# Altium footprint library RF_Connectors.PcbLib: 18 footprints (part 1 of 2)
Each footprint in its own frame and in the unit in brackets; x right, y up, seen from the top. Pads: shape width x height; smd on the part's side, far side on the other; paste and mask are expansions set on the pad; w line width, h text height; cw(c..) or ccw(c..) is an arc to the next point about the centre after c.
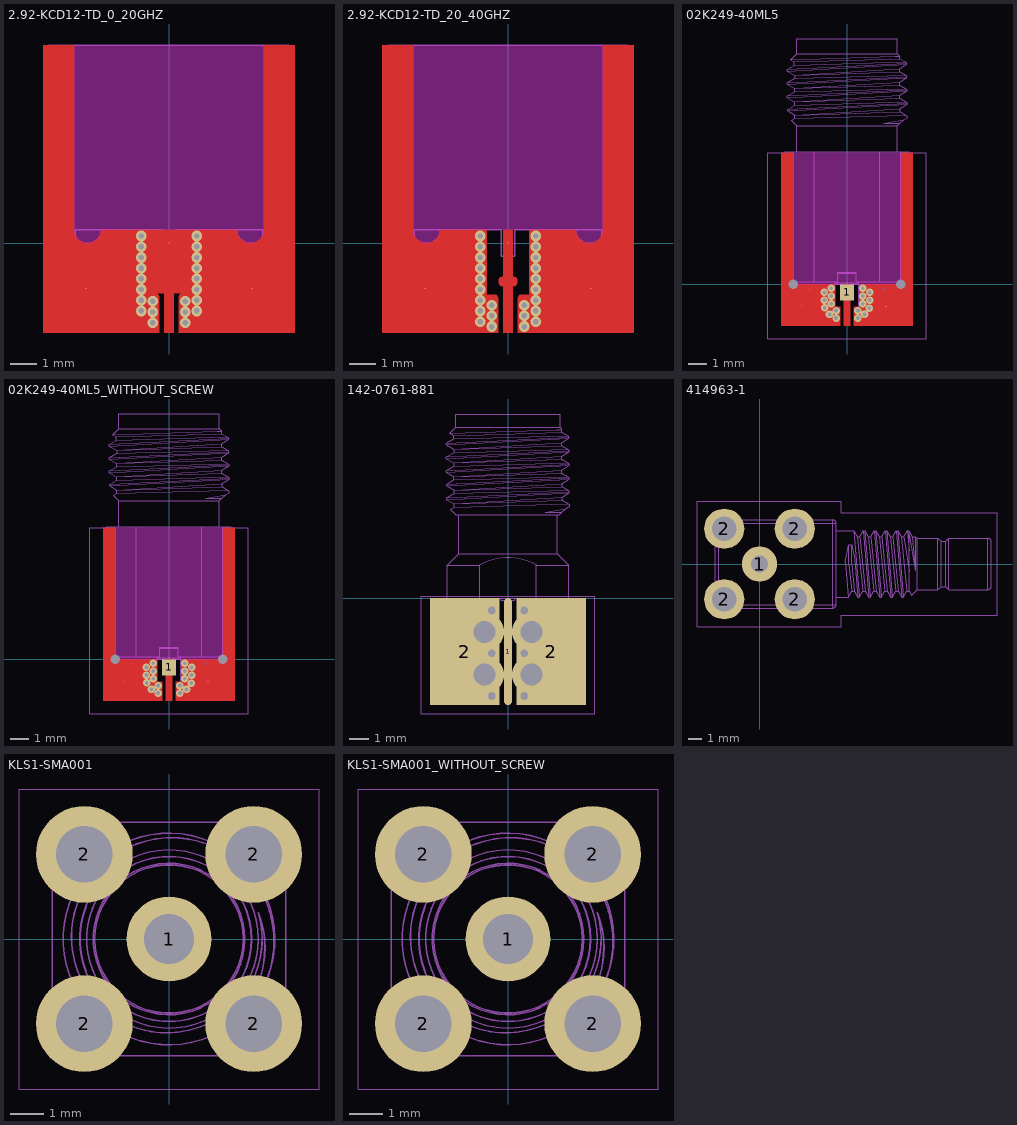
[diagram p0: the footprints below, top view; thin cyan lines are the x and y axes]

## 2.92-KCD12-TD_0_20GHZ [mil]
pads (3):
  round 1 smd mask-196.85: 1(0,0) 2(-122.05,-66.93) 2(122.05,-66.93)
via -40.94,10.44 diameter 15.75 hole 7.87
via -40.94,-5.31 diameter 15.75 hole 7.87
via -40.94,-21.06 diameter 15.75 hole 7.87
via -40.94,-36.81 diameter 15.75 hole 7.87
via -40.94,-52.55 diameter 15.75 hole 7.87
via -40.94,-68.3 diameter 15.75 hole 7.87
via -40.94,-84.05 diameter 15.75 hole 7.87
via -40.94,-99.8 diameter 15.75 hole 7.87
via -24.02,-85.62 diameter 15.75 hole 7.87
via -24.02,-101.37 diameter 15.75 hole 7.87
via -24.02,-117.12 diameter 15.75 hole 7.87
via 24.02,-117.12 diameter 15.75 hole 7.87
via 24.02,-101.37 diameter 15.75 hole 7.87
via 24.02,-85.62 diameter 15.75 hole 7.87
via 40.94,-99.8 diameter 15.75 hole 7.87
via 40.94,-84.05 diameter 15.75 hole 7.87
via 40.94,-68.3 diameter 15.75 hole 7.87
via 40.95,-52.55 diameter 15.75 hole 7.87
via 40.94,-36.81 diameter 15.75 hole 7.87
via 40.94,-21.06 diameter 15.75 hole 7.87
via 40.94,-5.31 diameter 15.75 hole 7.87
via 40.94,10.44 diameter 15.75 hole 7.87
Top Layer:
  region: -6.69,-65.94 -8.74,-65.95 -9.5,-65.95 -10.9,-65.36 -11.98,-64.29 -12.56,-62.89 -12.56,-62.13 -12.56,-55.59 -12.56,-54.83 -11.98,-53.43 -10.9,-52.35 -9.5,-51.77 -8.74,-51.77 -6.69,-51.77 -6.69,-19.89 6.69,-19.89 6.69,-51.77 8.74,-51.77 9.5,-51.77 10.9,-52.35 11.98,-53.43 12.56,-54.83 12.56,-55.59 12.56,-62.13 12.56,-62.89 11.98,-64.29 10.9,-65.36 9.5,-65.94 8.74,-65.94 6.69,-65.94 6.69,-132.09 -6.69,-132.09
  pour cut-out: -31.5,19.88 -31.5,-67.1 -31.5,-68.44 -30.47,-70.9 -28.59,-72.79 -26.12,-73.81 -24.78,-73.81 -6.69,-73.82 -6.69,-65.94 -9.49,-65.94 -10.91,-65.35 -11.97,-64.33 -12.56,-62.87 -12.56,-54.84 -11.97,-53.43 -10.91,-52.36 -9.49,-51.77 -6.69,-51.77 -6.69,19.88
  pour cut-out: 31.5,19.88 31.5,-67.1 31.5,-68.44 30.47,-70.9 28.59,-72.79 26.12,-73.81 24.78,-73.81 6.69,-73.82 6.69,-65.94 9.49,-65.94 10.91,-65.35 11.97,-64.33 12.56,-62.87 12.56,-54.84 11.97,-53.43 10.91,-52.36 9.49,-51.77 6.69,-51.77 6.69,19.88
  region: -6.69,-19.89 6.69,-19.89 6.69,19.89 -6.69,19.89
  region: -185.04,-132.09 -185.04,291.54 -139.76,291.54 -139.76,19.89 -139.67,17.96 -138.92,14.18 -137.44,10.61 -135.3,7.4 -132.57,4.67 -129.36,2.53 -125.8,1.05 -122.01,0.3 -118.15,0.3 -114.37,1.05 -110.8,2.53 -107.6,4.67 -104.87,7.4 -102.72,10.61 -101.25,14.17 -100.49,17.96 -100.4,19.89 -100.39,19.89 -31.5,19.89 -31.5,-67.12 -31.46,-67.78 -31.21,-69.06 -30.71,-70.27 -29.98,-71.37 -29.05,-72.29 -27.96,-73.02 -26.75,-73.52 -25.46,-73.78 -24.8,-73.81 -19.68,-73.81 -19.18,-73.81 -18.19,-74.01 -17.26,-74.4 -16.42,-74.96 -15.71,-75.67 -15.15,-76.51 -14.77,-77.44 -14.57,-78.43 -14.57,-78.93 -14.57,-132.09
  region: 185.04,-132.09 185.04,291.54 139.76,291.54 139.76,19.89 139.67,17.96 138.92,14.18 137.44,10.61 135.3,7.4 132.57,4.67 129.36,2.53 125.8,1.05 122.01,0.3 118.15,0.3 114.37,1.05 110.8,2.53 107.6,4.67 104.87,7.4 102.72,10.61 101.25,14.17 100.49,17.96 100.4,19.89 100.39,19.89 31.5,19.89 31.5,-67.12 31.46,-67.78 31.21,-69.06 30.71,-70.27 29.98,-71.37 29.05,-72.29 27.96,-73.02 26.75,-73.52 25.46,-73.78 24.8,-73.81 19.68,-73.81 19.18,-73.81 18.19,-74.01 17.26,-74.4 16.42,-74.96 15.71,-75.67 15.15,-76.51 14.77,-77.44 14.57,-78.43 14.57,-78.93 14.57,-132.09
Top Solder:
  pour cut-out: 26.38,-27.37 26.38,-35.24 -26.77,-35.24 -26.77,-27.37
  pour cut-out: 209.05,-90.76 105.91,-90.76 105.91,19.87 94.09,19.87 94.09,-102.57 220.87,-102.57 220.87,291.53 209.05,291.53
  pour cut-out: -209.05,-90.76 -105.91,-90.76 -105.91,19.87 -94.09,19.87 -94.09,-102.57 -220.87,-102.57 -220.87,291.53 -209.05,291.53
Bottom Solder:
  pour cut-out: -177.56,291.54 -165.75,291.54 -165.75,-15.75 0,-15.75 0,-27.56 -177.56,-27.56 -177.56,-4.14
  pour cut-out: 177.56,291.54 165.75,291.54 165.75,-15.75 0,-15.75 0,-27.56 177.56,-27.56 177.56,-4.14
Keep-Out Layer:
  board cut-out: -139.76,19.89 -139.76,15.97 -136.77,8.74 -131.23,3.2 -123.99,0.2 -116.16,0.2 -108.93,3.2 -103.39,8.74 -100.39,15.97 -100.39,19.89 100.39,19.89 100.39,15.97 103.39,8.74 108.93,3.2 116.16,0.21 123.99,0.21 131.23,3.2 136.77,8.74 139.76,15.97 139.76,19.89 139.76,291.54 -139.76,291.54
Top Assy (Mech13):
  lines w1.97: -177.17,-58.85 -137.8,-58.85 -137.8,19.89 -9.84,19.89 -9.84,-19.48 9.84,-19.48 9.84,19.89 137.8,19.89 137.8,-58.85 177.17,-58.85 177.17,291.54 -177.17,291.54 -177.17,-58.85
3D body "Соединитель 2.92-KCD12-TD.STEP": height 153.54, standoff -122.05, extent -177.15,-58.85 177.17,527.76

## 2.92-KCD12-TD_20_40GHZ [mil]
pads (3):
  round 1 smd mask-196.85: 1(0,0) 2(-122.05,-66.93) 2(122.05,-66.93)
via 24.02,-122.87 diameter 15.75 hole 7.87
via 24.02,-107.12 diameter 15.75 hole 7.87
via 24.02,-91.37 diameter 15.75 hole 7.87
via 40.94,-52.55 diameter 15.75 hole 7.87
via 40.94,-115.54 diameter 15.75 hole 7.87
via 40.94,-99.8 diameter 15.75 hole 7.87
via 40.94,-84.05 diameter 15.75 hole 7.87
via 40.94,-68.3 diameter 15.75 hole 7.87
via 40.94,-36.8 diameter 15.75 hole 7.87
via 40.94,-21.06 diameter 15.75 hole 7.87
via 40.94,-5.31 diameter 15.75 hole 7.87
via 40.94,10.44 diameter 15.75 hole 7.87
via -24.02,-122.87 diameter 15.75 hole 7.87
via -24.02,-107.12 diameter 15.75 hole 7.87
via -24.02,-91.37 diameter 15.75 hole 7.87
via -40.94,-52.55 diameter 15.75 hole 7.87
via -40.94,-115.54 diameter 15.75 hole 7.87
via -40.94,-99.8 diameter 15.75 hole 7.87
via -40.94,-84.05 diameter 15.75 hole 7.87
via -40.94,-68.3 diameter 15.75 hole 7.87
via -40.94,-36.8 diameter 15.75 hole 7.87
via -40.94,-21.06 diameter 15.75 hole 7.87
via -40.94,-5.31 diameter 15.75 hole 7.87
via -40.94,10.44 diameter 15.75 hole 7.87
Top Layer:
  region: -6.69,-63.42 -8.05,-63.42 -9.23,-63.42 -11.41,-62.51 -13.07,-60.85 -13.98,-58.67 -13.98,-57.49 -13.98,-55.13 -13.98,-53.96 -13.08,-51.79 -11.43,-50.14 -9.26,-49.24 -8.09,-49.24 -6.69,-49.24 -6.69,-19.89 6.69,-19.89 6.69,-49.24 8.09,-49.24 9.26,-49.24 11.43,-50.14 13.08,-51.79 13.98,-53.96 13.98,-55.13 13.98,-57.49 13.98,-58.67 13.07,-60.85 11.41,-62.51 9.23,-63.42 8.05,-63.42 6.69,-63.42 6.69,-132.09 -6.69,-132.09
  region: 185.04,-132.09 185.04,291.54 139.76,291.54 139.76,19.89 139.67,17.96 138.92,14.18 137.44,10.61 135.3,7.4 132.57,4.67 129.36,2.53 125.8,1.05 122.01,0.3 118.15,0.3 114.37,1.05 110.8,2.53 107.6,4.67 104.87,7.4 102.72,10.61 101.25,14.17 100.49,17.96 100.4,19.89 100.39,19.89 31.5,19.89 31.5,-75.63 20.32,-75.63 19.75,-75.63 18.64,-75.85 17.6,-76.28 16.65,-76.91 15.85,-77.72 15.22,-78.66 14.79,-79.7 14.57,-80.82 14.57,-81.38 14.57,-132.09
  region: -185.04,-132.09 -185.04,291.54 -139.76,291.54 -139.76,19.89 -139.67,17.96 -138.92,14.18 -137.44,10.61 -135.3,7.4 -132.57,4.67 -129.36,2.53 -125.8,1.05 -122.01,0.3 -118.15,0.3 -114.37,1.05 -110.8,2.53 -107.6,4.67 -104.87,7.4 -102.72,10.61 -101.25,14.17 -100.49,17.96 -100.4,19.89 -100.39,19.89 -31.5,19.89 -31.5,-75.63 -20.32,-75.63 -19.75,-75.63 -18.64,-75.85 -17.6,-76.28 -16.65,-76.91 -15.85,-77.71 -15.22,-78.66 -14.79,-79.7 -14.57,-80.81 -14.57,-81.38 -14.57,-132.09
  region: -6.69,-19.89 6.69,-19.89 6.69,19.89 -6.69,19.89
Top Solder:
  region: -209.05,-90.76 -105.91,-90.76 -105.91,19.87 -94.09,19.87 -94.09,-102.57 -220.87,-102.57 -220.87,291.53 -209.05,291.53
  region: 209.05,-90.76 105.91,-90.76 105.91,19.87 94.09,19.87 94.09,-102.57 220.87,-102.57 220.87,291.53 209.05,291.53
  region: 26.38,-27.37 26.38,-35.24 -26.77,-35.24 -26.77,-27.37
Bottom Solder:
  region: 177.56,291.54 165.75,291.54 165.75,-4.14 0,-4.14 0,-15.95 177.56,-15.95 177.56,-4.14
  region: -177.56,291.54 -165.75,291.54 -165.75,-4.14 0,-4.14 0,-15.95 -177.56,-15.95 -177.56,-4.14
Keep-Out Layer:
  board cut-out: -139.76,19.89 -139.76,15.97 -136.77,8.74 -131.23,3.2 -123.99,0.2 -116.16,0.2 -108.93,3.2 -103.39,8.74 -100.39,15.97 -100.39,19.89 100.39,19.89 100.39,15.97 103.39,8.74 108.93,3.2 116.16,0.2 123.99,0.21 131.23,3.2 136.77,8.74 139.76,15.97 139.76,19.89 139.76,291.54 -139.76,291.54
Top Assy (Mech13):
  lines w1.97: -177.17,-58.85 -177.17,291.54 177.17,291.54 177.17,-58.85 137.8,-58.85 137.8,19.89 9.84,19.89 9.84,-19.48 -9.84,-19.48 -9.84,19.89 -137.8,19.89 -137.8,-58.85 -177.17,-58.85
3D body "Соединитель 2.92-KCD12-TD.STEP": height 153.54, standoff -122.05, extent -177.15,-58.85 177.17,527.76

## 02K243-40ME3 [mm] "Right Angle Jack PCB RPC-2.92"
height 4.85
pads (4):
  rect 0.34x5 smd paste-3 mask+0.102: 1(0,0)
  rect 6x5 smd paste-5: 2(-4,0) 2(4,0)
  rect 14x5 smd far side paste-5: 2(0,0)
via -4.75,-0.3 diameter 2.7 hole 2.1
via 4.75,-0.3 diameter 2.7 hole 2.1
Top Courtyard:
  lines w0.025: -7.5,-3 7.5,-3 7.5,2.6 -7.5,2.6 -7.5,-3
Top Assy (Mech13):
  circle w0.05: c4.75,-0.3 r1.7
  circle w0.05: c4.75,-0.3 r1.9
  circle w0.05: c-4.75,-0.3 r1.9
  circle w0.05: c-4.75,-0.3 r1.7
  lines w0.05: -6.394,-2.5 -6.394,-1.253 ; -6.394,0.653 -6.394,2.3 ; -2.675,2.3 -2.675,7.44 ; -1,-2.5 -1,2.5 1,2.5 1,-2.5 ; -1,1.9 -0.125,1.9 ; -1,2.3 -7,2.3 -7,-2.5 7,-2.5 7,2.3 1,2.3 ; -0.125,2.5 -0.125,1.5 0.125,1.5 0.125,2.5 ; 0.125,1.9 1,1.9 ; 2.675,2.3 2.675,7.44 ; 2.79,10.999 -2.793,10.824 ; 2.791,11.132 2.568,11.132 -2.987,10.938 ; 2.797,10.293 -2.786,10.118 ; 2.8,10.426 2.8,10.294 3.11,10.116 ; 2.804,9.587 -2.78,9.412 ; 2.807,9.72 2.807,9.588 3.117,9.41 ; 2.81,8.881 -2.773,8.706 ; 2.813,9.014 2.813,8.882 3.124,8.704 ; 2.817,8.175 -2.766,8 ; 2.82,8.308 2.82,8.176 3.131,7.998 ; 6.394,-2.5 6.394,-1.253 ; 6.394,0.653 6.394,2.3 ; -5.512,0.112 ccw(c-4.75,-0.3) -5.488,-0.753 ; -5.512,0.112 cw(c-4.75,-0.3) -5.488,-0.753 ; -5.512,0.112 -5.488,-0.753 ; -5.512,0.112 -4.774,0.566 -4.012,0.153 -3.988,-0.712 -4.726,-1.166 -5.488,-0.753 ; -3.175,10.339 -2.786,10.118 ; -3.175,10.339 3.175,10.692 ; -3.175,10.339 -3.175,10.427 ; -3.175,10.427 3.175,10.75 ; -3.175,10.427 -2.793,10.651 ; -3.168,9.633 -2.78,9.412 ; -3.168,9.633 3.182,9.986 ; -3.168,9.633 -3.168,9.721 ; -3.168,9.721 3.182,10.044 ; -3.168,9.721 -2.786,9.945 ; -3.161,8.927 -2.773,8.706 ; -3.161,8.927 3.189,9.28 ; -3.161,8.927 -3.161,9.015 ; -3.161,9.015 3.189,9.338 ; -3.161,9.015 -2.78,9.239 ; -3.155,8.221 -2.766,8 ; -3.155,8.221 3.195,8.574 ; -3.155,8.221 -3.155,8.309 ; -3.155,8.309 3.195,8.632 ; -3.155,8.309 -2.773,8.533 ; -2.987,10.938 -2.793,10.824 ; -2.987,10.938 -2.675,11.25 ; -2.793,10.651 3.103,10.822 ; -2.793,10.651 -2.793,10.824 ; -2.786,9.945 3.11,10.116 ; -2.786,9.945 -2.786,10.118 ; -2.786,10.118 2.793,10.455 3.175,10.692 ; -2.78,9.239 3.117,9.41 ; -2.78,9.239 -2.78,9.412 ; -2.78,9.412 2.8,9.749 3.182,9.986 ; -2.773,8.533 3.124,8.704 ; -2.773,8.533 -2.773,8.706 ; -2.773,8.706 2.807,9.043 3.189,9.28 ; -2.766,7.827 -2.961,7.726 -2.675,7.44 ; -2.766,7.827 3.131,7.998 ; -2.766,7.827 -2.766,8 ; -2.766,8 2.813,8.337 3.195,8.574 ; -2.675,7.44 2.675,7.44 ; -2.675,11.25 2.675,11.25 ; -2.675,11.25 -2.675,12 2.675,12 2.675,11.25 ; 2.675,7.44 2.793,7.558 ; 2.675,11.25 2.793,11.132 2.793,11 3.103,10.822 ; 2.793,7.558 3.011,7.749 ; 2.793,7.558 1.947,7.558 3.011,7.749 ; 3.011,7.749 3.202,7.868 3.202,7.926 3.131,7.998 ; 3.103,10.822 3.175,10.75 ; 3.11,10.116 3.182,10.044 ; 3.117,9.41 3.189,9.338 ; 3.124,8.704 3.195,8.632 ; 3.175,10.692 3.175,10.75 ; 3.182,9.986 3.182,10.044 ; 3.189,9.28 3.189,9.338 ; 3.195,8.574 3.195,8.632 ; 3.954,0.041 ccw(c4.75,-0.3) 4.057,-0.819 ; 3.954,0.041 cw(c4.75,-0.3) 4.057,-0.819 ; 3.954,0.041 4.057,-0.819 ; 3.954,0.041 4.647,0.56 5.443,0.219 5.546,-0.641 4.853,-1.16 4.057,-0.819 ; -4.393,0.36 cw(c-4.75,-0.3) -4,-0.279 cw(c-4.75,-0.3) -4.393,0.36 ; 5.045,0.39 cw(c4.75,-0.3) 5.495,-0.211 cw(c4.75,-0.3) 5.045,0.39
  text ".Designator" at -6.763,3.821 h3
Bottom Assy (Mech14):
  drawing of 510 lines, arcs and shapes, not listed
3D body "02K243-40ME3.x_t": height 4.95, standoff -5.05, extent -7,-2.5 7,12

## 02K243-40ME3_WITHOUT_SCREW [mm] "Right Angle Jack PCB RPC-2.92, 3D model without screw thread"
height 4.85
pads (4):
  rect 0.34x5 smd paste-3 mask+0.102: 1(0,0)
  rect 6x5 smd paste-5: 2(-4,0) 2(4,0)
  rect 14x5 smd far side paste-5: 2(0,0)
via 4.75,-0.3 diameter 2.7 hole 2.1
via -4.75,-0.3 diameter 2.7 hole 2.1
Top Courtyard:
  lines w0.025: -7.5,-3 -7.5,2.6 7.5,2.6 7.5,-3 -7.5,-3
Top Assy (Mech13):
  circle w0.05: c-4.75,-0.3 r1.7
  circle w0.05: c-4.75,-0.3 r1.9
  circle w0.05: c4.75,-0.3 r1.9
  circle w0.05: c4.75,-0.3 r1.7
  lines w0.05: -6.394,-2.5 -6.394,-1.253 ; -6.394,0.653 -6.394,2.3 ; -2.675,2.3 -2.675,7.44 ; -1,-2.5 -1,2.5 1,2.5 1,-2.5 ; -1,1.9 -0.125,1.9 ; -1,2.3 -7,2.3 -7,-2.5 7,-2.5 7,2.3 1,2.3 ; -0.125,2.5 -0.125,1.5 0.125,1.5 0.125,2.5 ; 0.125,1.9 1,1.9 ; 2.675,2.3 2.675,7.44 ; 2.79,10.999 -2.793,10.824 ; 2.791,11.132 2.568,11.132 -2.987,10.938 ; 2.797,10.293 -2.786,10.118 ; 2.8,10.426 2.8,10.294 3.11,10.116 ; 2.804,9.587 -2.78,9.412 ; 2.807,9.72 2.807,9.588 3.117,9.41 ; 2.81,8.881 -2.773,8.706 ; 2.813,9.014 2.813,8.882 3.124,8.704 ; 2.817,8.175 -2.766,8 ; 2.82,8.308 2.82,8.176 3.131,7.998 ; 6.394,-2.5 6.394,-1.253 ; 6.394,0.653 6.394,2.3 ; -5.512,0.112 cw(c-4.75,-0.3) -5.488,-0.753 ; -5.512,0.112 ccw(c-4.75,-0.3) -5.488,-0.753 ; -5.512,0.112 -4.774,0.566 -4.012,0.153 -3.988,-0.712 -4.726,-1.166 -5.488,-0.753 ; -5.512,0.112 -5.488,-0.753 ; -3.175,10.339 -3.175,10.427 ; -3.175,10.339 3.175,10.692 ; -3.175,10.339 -2.786,10.118 ; -3.175,10.427 -2.793,10.651 ; -3.175,10.427 3.175,10.75 ; -3.168,9.633 -3.168,9.721 ; -3.168,9.633 3.182,9.986 ; -3.168,9.633 -2.78,9.412 ; -3.168,9.721 -2.786,9.945 ; -3.168,9.721 3.182,10.044 ; -3.161,8.927 -3.161,9.015 ; -3.161,8.927 3.189,9.28 ; -3.161,8.927 -2.773,8.706 ; -3.161,9.015 -2.78,9.239 ; -3.161,9.015 3.189,9.338 ; -3.155,8.221 -3.155,8.309 ; -3.155,8.221 3.195,8.574 ; -3.155,8.221 -2.766,8 ; -3.155,8.309 -2.773,8.533 ; -3.155,8.309 3.195,8.632 ; -2.987,10.938 -2.675,11.25 ; -2.987,10.938 -2.793,10.824 ; -2.793,10.651 -2.793,10.824 ; -2.793,10.651 3.103,10.822 ; -2.786,9.945 -2.786,10.118 ; -2.786,9.945 3.11,10.116 ; -2.786,10.118 2.793,10.455 3.175,10.692 ; -2.78,9.239 -2.78,9.412 ; -2.78,9.239 3.117,9.41 ; -2.78,9.412 2.8,9.749 3.182,9.986 ; -2.773,8.533 -2.773,8.706 ; -2.773,8.533 3.124,8.704 ; -2.773,8.706 2.807,9.043 3.189,9.28 ; -2.766,7.827 -2.766,8 ; -2.766,7.827 3.131,7.998 ; -2.766,7.827 -2.961,7.726 -2.675,7.44 ; -2.766,8 2.813,8.337 3.195,8.574 ; -2.675,7.44 2.675,7.44 ; -2.675,11.25 -2.675,12 2.675,12 2.675,11.25 ; -2.675,11.25 2.675,11.25 ; 2.675,7.44 2.793,7.558 ; 2.675,11.25 2.793,11.132 2.793,11 3.103,10.822 ; 2.793,7.558 1.947,7.558 3.011,7.749 ; 2.793,7.558 3.011,7.749 ; 3.011,7.749 3.202,7.868 3.202,7.926 3.131,7.998 ; 3.103,10.822 3.175,10.75 ; 3.11,10.116 3.182,10.044 ; 3.117,9.41 3.189,9.338 ; 3.124,8.704 3.195,8.632 ; 3.175,10.692 3.175,10.75 ; 3.182,9.986 3.182,10.044 ; 3.189,9.28 3.189,9.338 ; 3.195,8.574 3.195,8.632 ; 3.954,0.041 cw(c4.75,-0.3) 4.057,-0.819 ; 3.954,0.041 ccw(c4.75,-0.3) 4.057,-0.819 ; 3.954,0.041 4.647,0.56 5.443,0.219 5.546,-0.641 4.853,-1.16 4.057,-0.819 ; 3.954,0.041 4.057,-0.819 ; -4.393,0.36 ccw(c-4.75,-0.3) -4,-0.279 ccw(c-4.75,-0.3) -4.393,0.36 ; 5.045,0.39 ccw(c4.75,-0.3) 5.495,-0.211 ccw(c4.75,-0.3) 5.045,0.39
  text ".Designator" at -6.763,3.821 h3
Bottom Assy (Mech14):
  drawing of 510 lines, arcs and shapes, not listed
3D body "02K243-40ME3_without_screw_thread.x_t": height 4.95, standoff -5.05, extent -7,-2.5 7,12

## 02K249-40ML5 [mm] "Right Angle Jack PCB RPC-2.92"
height 3.05
pads (7):
  rect 0.73x0.85 smd paste-5 mask-5: 1(0,-0.425)
  round 0 hole 0.5 paste-2539.97 mask+0.102: 2(-2.85,0) 2(2.85,0)
  round 0.025 smd paste-5 mask-5: 2(-2.4,-1.15) 2(2.07,-1.175)
  round 0.025 smd far side paste-5 mask-5: 2(-2,-0.25) 2(2,-0.25)
via -0.84,-0.21 diameter 0.4 hole 0.2
via -0.58,-1.79 diameter 0.4 hole 0.2
via -0.84,-0.62 diameter 0.4 hole 0.2
via -0.58,-1.39 diameter 0.4 hole 0.2
via -0.84,-1.03 diameter 0.4 hole 0.2
via 0.84,-0.21 diameter 0.4 hole 0.2
via 0.58,-1.79 diameter 0.4 hole 0.2
via 0.84,-0.62 diameter 0.4 hole 0.2
via 0.58,-1.39 diameter 0.4 hole 0.2
via 0.84,-1.03 diameter 0.4 hole 0.2
via -1.2,-0.425 diameter 0.4 hole 0.2
via -1.2,-0.835 diameter 0.4 hole 0.2
via -0.93,-1.595 diameter 0.4 hole 0.2
via 1.2,-0.425 diameter 0.4 hole 0.2
via 1.2,-0.835 diameter 0.4 hole 0.2
via 0.93,-1.595 diameter 0.4 hole 0.2
via 1.18,-1.26 diameter 0.4 hole 0.2
via -1.18,-1.25 diameter 0.4 hole 0.2
Top Layer:
  region: 0,0 -0.17,0 -0.17,-1.34 0,-1.34
  region: 0,0 0.17,0 0.17,-1.34 0,-1.34
  region: 0,-1.34 -0.17,-1.34 -0.17,-2.2 0,-2.2
  region: 0,-1.34 0.17,-1.34 0.17,-2.2 0,-2.2
  region: 0.37,-2.2 3.5,-2.2 3.5,-1.175 3.5,7 2.85,7 2.85,0 0.64,0 0.64,-1.175 0.37,-1.175
  region: -3.5,-2.2 -0.37,-2.2 -0.37,-1.175 -0.64,-1.175 -0.64,0 -2.85,0 -2.85,7 -3.5,7 -3.5,-1.175
Bottom Layer:
  region: -3.5,-0.5 -0.64,-0.5 -0.64,0 -2.85,0 -2.85,7 -3.5,7
  region: 0.64,-0.5 3.5,-0.5 3.5,7 2.85,7 2.85,0 0.64,0
Top Solder:
  region: -3.8,7 -3.8,-2.5 3.8,-2.5 3.8,7 3.5,7 3.5,-2.2 -3.5,-2.2 -3.5,7
  region: -0.4,-1 0.4,-1 0.5,-1 0.5,-1.2 -0.5,-1.2 -0.5,-1
Keep-Out Layer:
  board cut-out: -2.85,7 -2.85,0 2.85,0 2.85,7
Top Courtyard:
  lines w0.025: -4.2,-2.9 -4.2,7 -2.85,7 -2.85,0 2.85,0 2.85,7 4.2,7 4.2,-2.9 -4.2,-2.9
Top Assy (Mech13):
  lines w0.05: -3.281,-1.862 -3.281,0.138 -0.5,0.138 -0.5,0.637 0.5,0.637 0.5,0.138 3.281,0.138 3.281,-1.862 ; -2.675,7.038 -2.675,8.438 ; -2.675,12.288 -2.675,13.037 2.675,13.037 2.675,12.288 ; -1.746,0.138 -1.746,7.038 ; -0.635,0.088 0.635,0.088 ; -0.635,0.138 -0.635,-1.862 -3.3,-1.862 -3.3,7.038 3.3,7.038 3.3,-1.862 0.635,-1.862 0.635,0.138 ; -0.5,0.588 0.5,0.588 ; -0.25,0.088 -0.25,-0.712 0.25,-0.712 0.25,0.088 ; 1.746,0.138 1.746,7.038 ; 2.675,7.038 2.675,8.438 ; 2.79,11.996 -2.793,11.821 ; 2.791,12.129 2.568,12.129 -2.987,11.935 ; 2.797,11.29 -2.786,11.116 ; 2.8,11.423 2.8,11.292 3.11,11.113 ; 2.804,10.584 -2.78,10.41 ; 2.807,10.717 2.807,10.586 3.117,10.407 ; 2.81,9.878 -2.773,9.704 ; 2.813,10.011 2.813,9.88 3.124,9.701 ; 2.817,9.172 -2.766,8.998 ; 2.82,9.306 2.82,9.174 3.131,8.995 ; -3.175,11.336 -2.786,11.116 ; -3.175,11.336 3.175,11.689 ; -3.175,11.336 -3.175,11.425 ; -3.175,11.425 3.175,11.748 ; -3.175,11.425 -2.793,11.648 ; -3.168,10.63 -2.78,10.41 ; -3.168,10.63 3.182,10.983 ; -3.168,10.63 -3.168,10.719 ; -3.168,10.719 3.182,11.042 ; -3.168,10.719 -2.786,10.942 ; -3.161,9.924 -2.773,9.704 ; -3.161,9.924 3.189,10.277 ; -3.161,9.924 -3.161,10.013 ; -3.161,10.013 3.189,10.336 ; -3.161,10.013 -2.78,10.236 ; -3.155,9.218 -2.766,8.998 ; -3.155,9.218 3.195,9.571 ; -3.155,9.218 -3.155,9.307 ; -3.155,9.307 3.195,9.63 ; -3.155,9.307 -2.773,9.53 ; -2.987,11.935 -2.793,11.821 ; -2.987,11.935 -2.675,12.248 2.675,12.248 2.793,12.129 2.793,11.998 3.103,11.819 ; -2.793,11.648 3.103,11.819 ; -2.793,11.648 -2.793,11.821 ; -2.786,10.942 3.11,11.113 ; -2.786,10.942 -2.786,11.116 ; -2.786,11.116 2.793,11.452 3.175,11.689 ; -2.78,10.236 3.117,10.407 ; -2.78,10.236 -2.78,10.41 ; -2.78,10.41 2.8,10.746 3.182,10.983 ; -2.773,9.53 3.124,9.701 ; -2.773,9.53 -2.773,9.704 ; -2.773,9.704 2.807,10.04 3.189,10.277 ; -2.766,8.825 -2.961,8.724 -2.675,8.438 ; -2.766,8.825 3.131,8.995 ; -2.766,8.825 -2.766,8.998 ; -2.766,8.998 2.813,9.334 3.195,9.571 ; -2.675,8.438 2.675,8.438 ; 2.675,8.438 2.793,8.556 ; 2.793,8.556 3.011,8.747 ; 2.793,8.556 1.947,8.556 3.011,8.747 ; 3.011,8.747 3.202,8.865 3.202,8.924 3.131,8.995 ; 3.103,11.819 3.175,11.748 ; 3.11,11.113 3.182,11.042 ; 3.117,10.407 3.189,10.336 ; 3.124,9.701 3.195,9.63 ; 3.175,11.689 3.175,11.748 ; 3.182,10.983 3.182,11.042 ; 3.189,10.277 3.189,10.336 ; 3.195,9.571 3.195,9.63
  text ".Designator" at 0.679,-3.263 h3
3D body "02K249-40ML5.x_t": height 3.42, standoff -2.92, extent -3.3,-1.865 3.3,13.035

## 02K249-40ML5_WITHOUT_SCREW [mm] "Right Angle Jack PCB RPC-2.92, 3D model without screw thread"
height 3.05
pads (7):
  rect 0.73x0.85 smd paste-5 mask-5: 1(0,-0.425)
  round 0 hole 0.5 paste-2539.97 mask+0.102: 2(-2.85,0) 2(2.85,0)
  round 0.025 smd paste-5 mask-5: 2(-2.4,-1.15) 2(2.07,-1.175)
  round 0.025 smd far side paste-5 mask-5: 2(-2,-0.25) 2(2,-0.25)
via -0.84,-0.21 diameter 0.4 hole 0.2
via -0.58,-1.79 diameter 0.4 hole 0.2
via -0.84,-0.62 diameter 0.4 hole 0.2
via -0.58,-1.39 diameter 0.4 hole 0.2
via -0.84,-1.03 diameter 0.4 hole 0.2
via 0.84,-0.21 diameter 0.4 hole 0.2
via 0.58,-1.79 diameter 0.4 hole 0.2
via 0.84,-0.62 diameter 0.4 hole 0.2
via 0.58,-1.39 diameter 0.4 hole 0.2
via 0.84,-1.03 diameter 0.4 hole 0.2
via -1.2,-0.425 diameter 0.4 hole 0.2
via -1.2,-0.835 diameter 0.4 hole 0.2
via -0.93,-1.595 diameter 0.4 hole 0.2
via 1.2,-0.425 diameter 0.4 hole 0.2
via 1.2,-0.835 diameter 0.4 hole 0.2
via 0.93,-1.595 diameter 0.4 hole 0.2
via 1.18,-1.26 diameter 0.4 hole 0.2
via -1.18,-1.25 diameter 0.4 hole 0.2
Top Layer:
  region: 0,0 -0.17,0 -0.17,-1.34 0,-1.34
  region: 0,0 0.17,0 0.17,-1.34 0,-1.34
  region: 0,-1.34 -0.17,-1.34 -0.17,-2.2 0,-2.2
  region: 0,-1.34 0.17,-1.34 0.17,-2.2 0,-2.2
  region: 0.37,-2.2 3.5,-2.2 3.5,-1.175 3.5,7 2.85,7 2.85,0 0.64,0 0.64,-1.175 0.37,-1.175
  region: -3.5,-2.2 -0.37,-2.2 -0.37,-1.175 -0.64,-1.175 -0.64,0 -2.85,0 -2.85,7 -3.5,7 -3.5,-1.175
Bottom Layer:
  region: -3.5,-0.5 -0.64,-0.5 -0.64,0 -2.85,0 -2.85,7 -3.5,7
  region: 0.64,-0.5 3.5,-0.5 3.5,7 2.85,7 2.85,0 0.64,0
Top Solder:
  region: -3.8,7 -3.8,-2.5 3.8,-2.5 3.8,7 3.5,7 3.5,-2.2 -3.5,-2.2 -3.5,7
  region: -0.4,-1 0.4,-1 0.5,-1 0.5,-1.2 -0.5,-1.2 -0.5,-1
Keep-Out Layer:
  board cut-out: -2.85,7 -2.85,0 2.85,0 2.85,7
Top Courtyard:
  lines w0.025: -4.2,-2.9 -4.2,7 -2.85,7 -2.85,0 2.85,0 2.85,7 4.2,7 4.2,-2.9 -4.2,-2.9
Top Assy (Mech13):
  lines w0.05: -3.281,-1.862 -3.281,0.138 -0.5,0.138 -0.5,0.637 0.5,0.637 0.5,0.138 3.281,0.138 3.281,-1.862 ; -2.675,7.038 -2.675,8.438 ; -2.675,12.288 -2.675,13.037 2.675,13.037 2.675,12.288 ; -1.746,0.138 -1.746,7.038 ; -0.635,0.088 0.635,0.088 ; -0.635,0.138 -0.635,-1.862 -3.3,-1.862 -3.3,7.038 3.3,7.038 3.3,-1.862 0.635,-1.862 0.635,0.138 ; -0.5,0.588 0.5,0.588 ; -0.25,0.088 -0.25,-0.712 0.25,-0.712 0.25,0.088 ; 1.746,0.138 1.746,7.038 ; 2.675,7.038 2.675,8.438 ; 2.79,11.996 -2.793,11.821 ; 2.791,12.129 2.568,12.129 -2.987,11.935 ; 2.797,11.29 -2.786,11.116 ; 2.8,11.423 2.8,11.292 3.11,11.113 ; 2.804,10.584 -2.78,10.41 ; 2.807,10.717 2.807,10.586 3.117,10.407 ; 2.81,9.878 -2.773,9.704 ; 2.813,10.011 2.813,9.88 3.124,9.701 ; 2.817,9.172 -2.766,8.998 ; 2.82,9.306 2.82,9.174 3.131,8.995 ; -3.175,11.336 -2.786,11.116 ; -3.175,11.336 3.175,11.689 ; -3.175,11.336 -3.175,11.425 ; -3.175,11.425 3.175,11.748 ; -3.175,11.425 -2.793,11.648 ; -3.168,10.63 -2.78,10.41 ; -3.168,10.63 3.182,10.983 ; -3.168,10.63 -3.168,10.719 ; -3.168,10.719 3.182,11.042 ; -3.168,10.719 -2.786,10.942 ; -3.161,9.924 -2.773,9.704 ; -3.161,9.924 3.189,10.277 ; -3.161,9.924 -3.161,10.013 ; -3.161,10.013 3.189,10.336 ; -3.161,10.013 -2.78,10.236 ; -3.155,9.218 -2.766,8.998 ; -3.155,9.218 3.195,9.571 ; -3.155,9.218 -3.155,9.307 ; -3.155,9.307 3.195,9.63 ; -3.155,9.307 -2.773,9.53 ; -2.987,11.935 -2.793,11.821 ; -2.987,11.935 -2.675,12.248 2.675,12.248 2.793,12.129 2.793,11.998 3.103,11.819 ; -2.793,11.648 3.103,11.819 ; -2.793,11.648 -2.793,11.821 ; -2.786,10.942 3.11,11.113 ; -2.786,10.942 -2.786,11.116 ; -2.786,11.116 2.793,11.452 3.175,11.689 ; -2.78,10.236 3.117,10.407 ; -2.78,10.236 -2.78,10.41 ; -2.78,10.41 2.8,10.746 3.182,10.983 ; -2.773,9.53 3.124,9.701 ; -2.773,9.53 -2.773,9.704 ; -2.773,9.704 2.807,10.04 3.189,10.277 ; -2.766,8.825 -2.961,8.724 -2.675,8.438 ; -2.766,8.825 3.131,8.995 ; -2.766,8.825 -2.766,8.998 ; -2.766,8.998 2.813,9.334 3.195,9.571 ; -2.675,8.438 2.675,8.438 ; 2.675,8.438 2.793,8.556 ; 2.793,8.556 3.011,8.747 ; 2.793,8.556 1.947,8.556 3.011,8.747 ; 3.011,8.747 3.202,8.865 3.202,8.924 3.131,8.995 ; 3.103,11.819 3.175,11.748 ; 3.11,11.113 3.182,11.042 ; 3.117,10.407 3.189,10.336 ; 3.124,9.701 3.195,9.63 ; 3.175,11.689 3.175,11.748 ; 3.182,10.983 3.182,11.042 ; 3.189,10.277 3.189,10.336 ; 3.195,9.571 3.195,9.63
  text ".Designator" at 0.679,-3.263 h3
3D body "02K249-40ML5_without_screw_thread.x_t": height 3.42, standoff -2.93, extent -3.3,-1.865 3.3,13.035

## 32K243-40ML5 [mm] "Right Angle Jack PCB SMA"
height 4.85
pads (4):
  rect 0.34x5 smd paste-3 mask+0.102: 1(0,0)
  rect 6x5 smd paste-5: 2(-4,0) 2(4,0)
  rect 14x5 smd far side paste-5: 2(0,0)
via -4.75,-0.3 diameter 2.7 hole 2.1
via 4.75,-0.3 diameter 2.7 hole 2.1
Top Courtyard:
  lines w0.025: -7.5,-3 -7.5,2.6 7.5,2.6 7.5,-3 -7.5,-3
Top Assy (Mech13):
  circle w0.05: c4.75,-0.3 r1.7
  circle w0.05: c4.75,-0.3 r1.9
  circle w0.05: c-4.75,-0.3 r1.9
  circle w0.05: c-4.75,-0.3 r1.7
  lines w0.05: -6.394,-2.5 -6.394,-1.253 ; -6.394,0.653 -6.394,2.3 ; -2.675,2.3 -2.675,7.44 ; -1,-2.5 -1,2.5 1,2.5 1,-2.5 ; -1,1.9 -0.125,1.9 ; -1,2.3 -7,2.3 -7,-2.5 7,-2.5 7,2.3 1,2.3 ; -0.125,2.5 -0.125,1.5 0.125,1.5 0.125,2.5 ; 0.125,1.9 1,1.9 ; 2.675,2.3 2.675,7.44 ; 2.79,10.999 -2.793,10.824 ; 2.791,11.132 2.568,11.132 -2.987,10.938 ; 2.797,10.293 -2.786,10.118 ; 2.8,10.426 2.8,10.294 3.11,10.116 ; 2.804,9.587 -2.78,9.412 ; 2.807,9.72 2.807,9.588 3.117,9.41 ; 2.81,8.881 -2.773,8.706 ; 2.813,9.014 2.813,8.882 3.124,8.704 ; 2.817,8.175 -2.766,8 ; 2.82,8.308 2.82,8.176 3.131,7.998 ; 6.394,-2.5 6.394,-1.253 ; 6.394,0.653 6.394,2.3 ; -5.512,0.112 ccw(c-4.75,-0.3) -5.488,-0.753 ; -5.512,0.112 cw(c-4.75,-0.3) -5.488,-0.753 ; -5.512,0.112 -5.488,-0.753 ; -5.512,0.112 -4.774,0.566 -4.012,0.153 -3.988,-0.712 -4.726,-1.166 -5.488,-0.753 ; -3.175,10.339 -2.786,10.118 ; -3.175,10.339 3.175,10.692 ; -3.175,10.339 -3.175,10.427 ; -3.175,10.427 3.175,10.75 ; -3.175,10.427 -2.793,10.651 ; -3.168,9.633 -2.78,9.412 ; -3.168,9.633 3.182,9.986 ; -3.168,9.633 -3.168,9.721 ; -3.168,9.721 3.182,10.044 ; -3.168,9.721 -2.786,9.945 ; -3.161,8.927 -2.773,8.706 ; -3.161,8.927 3.189,9.28 ; -3.161,8.927 -3.161,9.015 ; -3.161,9.015 3.189,9.338 ; -3.161,9.015 -2.78,9.239 ; -3.155,8.221 -2.766,8 ; -3.155,8.221 3.195,8.574 ; -3.155,8.221 -3.155,8.309 ; -3.155,8.309 3.195,8.632 ; -3.155,8.309 -2.773,8.533 ; -2.987,10.938 -2.793,10.824 ; -2.987,10.938 -2.675,11.25 ; -2.793,10.651 3.103,10.822 ; -2.793,10.651 -2.793,10.824 ; -2.786,9.945 3.11,10.116 ; -2.786,9.945 -2.786,10.118 ; -2.786,10.118 2.793,10.455 3.175,10.692 ; -2.78,9.239 3.117,9.41 ; -2.78,9.239 -2.78,9.412 ; -2.78,9.412 2.8,9.749 3.182,9.986 ; -2.773,8.533 3.124,8.704 ; -2.773,8.533 -2.773,8.706 ; -2.773,8.706 2.807,9.043 3.189,9.28 ; -2.766,7.827 -2.961,7.726 -2.675,7.44 ; -2.766,7.827 3.131,7.998 ; -2.766,7.827 -2.766,8 ; -2.766,8 2.813,8.337 3.195,8.574 ; -2.675,7.44 2.675,7.44 ; -2.675,11.25 2.675,11.25 ; -2.675,11.25 -2.675,12 2.675,12 2.675,11.25 ; 2.675,7.44 2.793,7.558 ; 2.675,11.25 2.793,11.132 2.793,11 3.103,10.822 ; 2.793,7.558 3.011,7.749 ; 2.793,7.558 1.947,7.558 3.011,7.749 ; 3.011,7.749 3.202,7.868 3.202,7.926 3.131,7.998 ; 3.103,10.822 3.175,10.75 ; 3.11,10.116 3.182,10.044 ; 3.117,9.41 3.189,9.338 ; 3.124,8.704 3.195,8.632 ; 3.175,10.692 3.175,10.75 ; 3.182,9.986 3.182,10.044 ; 3.189,9.28 3.189,9.338 ; 3.195,8.574 3.195,8.632 ; 3.954,0.041 ccw(c4.75,-0.3) 4.057,-0.819 ; 3.954,0.041 cw(c4.75,-0.3) 4.057,-0.819 ; 3.954,0.041 4.057,-0.819 ; 3.954,0.041 4.647,0.56 5.443,0.219 5.546,-0.641 4.853,-1.16 4.057,-0.819 ; -4.393,0.36 cw(c-4.75,-0.3) -4,-0.279 cw(c-4.75,-0.3) -4.393,0.36 ; 5.045,0.39 cw(c4.75,-0.3) 5.495,-0.211 cw(c4.75,-0.3) 5.045,0.39
  text ".Designator" at -6.763,3.821 h3
Bottom Assy (Mech14):
  drawing of 510 lines, arcs and shapes, not listed
3D body "32K243-40ML5.x_t": height 4.95, standoff -5.05, extent -7,-2.5 7,12

## 32K243-40ML5_WITHOUT_SCREW [mm] "Right Angle Jack PCB SMA, 3D model without screw thread"
height 4.85
pads (4):
  rect 0.34x5 smd paste-3 mask+0.102: 1(0,0)
  rect 6x5 smd paste-5: 2(-4,0) 2(4,0)
  rect 14x5 smd far side paste-5: 2(0,0)
via -4.75,-0.3 diameter 2.7 hole 2.1
via 4.75,-0.3 diameter 2.7 hole 2.1
Top Courtyard:
  lines w0.025: -7.5,-3 -7.5,2.6 7.5,2.6 7.5,-3 -7.5,-3
Top Assy (Mech13):
  circle w0.05: c4.75,-0.3 r1.7
  circle w0.05: c4.75,-0.3 r1.9
  circle w0.05: c-4.75,-0.3 r1.9
  circle w0.05: c-4.75,-0.3 r1.7
  lines w0.05: -6.394,-2.5 -6.394,-1.253 ; -6.394,0.653 -6.394,2.3 ; -2.675,2.3 -2.675,7.44 ; -1,-2.5 -1,2.5 1,2.5 1,-2.5 ; -1,1.9 -0.125,1.9 ; -1,2.3 -7,2.3 -7,-2.5 7,-2.5 7,2.3 1,2.3 ; -0.125,2.5 -0.125,1.5 0.125,1.5 0.125,2.5 ; 0.125,1.9 1,1.9 ; 2.675,2.3 2.675,7.44 ; 2.79,10.999 -2.793,10.824 ; 2.791,11.132 2.568,11.132 -2.987,10.938 ; 2.797,10.293 -2.786,10.118 ; 2.8,10.426 2.8,10.294 3.11,10.116 ; 2.804,9.587 -2.78,9.412 ; 2.807,9.72 2.807,9.588 3.117,9.41 ; 2.81,8.881 -2.773,8.706 ; 2.813,9.014 2.813,8.882 3.124,8.704 ; 2.817,8.175 -2.766,8 ; 2.82,8.308 2.82,8.176 3.131,7.998 ; 6.394,-2.5 6.394,-1.253 ; 6.394,0.653 6.394,2.3 ; -5.512,0.112 ccw(c-4.75,-0.3) -5.488,-0.753 ; -5.512,0.112 cw(c-4.75,-0.3) -5.488,-0.753 ; -5.512,0.112 -5.488,-0.753 ; -5.512,0.112 -4.774,0.566 -4.012,0.153 -3.988,-0.712 -4.726,-1.166 -5.488,-0.753 ; -3.175,10.339 -2.786,10.118 ; -3.175,10.339 3.175,10.692 ; -3.175,10.339 -3.175,10.427 ; -3.175,10.427 3.175,10.75 ; -3.175,10.427 -2.793,10.651 ; -3.168,9.633 -2.78,9.412 ; -3.168,9.633 3.182,9.986 ; -3.168,9.633 -3.168,9.721 ; -3.168,9.721 3.182,10.044 ; -3.168,9.721 -2.786,9.945 ; -3.161,8.927 -2.773,8.706 ; -3.161,8.927 3.189,9.28 ; -3.161,8.927 -3.161,9.015 ; -3.161,9.015 3.189,9.338 ; -3.161,9.015 -2.78,9.239 ; -3.155,8.221 -2.766,8 ; -3.155,8.221 3.195,8.574 ; -3.155,8.221 -3.155,8.309 ; -3.155,8.309 3.195,8.632 ; -3.155,8.309 -2.773,8.533 ; -2.987,10.938 -2.793,10.824 ; -2.987,10.938 -2.675,11.25 ; -2.793,10.651 3.103,10.822 ; -2.793,10.651 -2.793,10.824 ; -2.786,9.945 3.11,10.116 ; -2.786,9.945 -2.786,10.118 ; -2.786,10.118 2.793,10.455 3.175,10.692 ; -2.78,9.239 3.117,9.41 ; -2.78,9.239 -2.78,9.412 ; -2.78,9.412 2.8,9.749 3.182,9.986 ; -2.773,8.533 3.124,8.704 ; -2.773,8.533 -2.773,8.706 ; -2.773,8.706 2.807,9.043 3.189,9.28 ; -2.766,7.827 -2.961,7.726 -2.675,7.44 ; -2.766,7.827 3.131,7.998 ; -2.766,7.827 -2.766,8 ; -2.766,8 2.813,8.337 3.195,8.574 ; -2.675,7.44 2.675,7.44 ; -2.675,11.25 2.675,11.25 ; -2.675,11.25 -2.675,12 2.675,12 2.675,11.25 ; 2.675,7.44 2.793,7.558 ; 2.675,11.25 2.793,11.132 2.793,11 3.103,10.822 ; 2.793,7.558 3.011,7.749 ; 2.793,7.558 1.947,7.558 3.011,7.749 ; 3.011,7.749 3.202,7.868 3.202,7.926 3.131,7.998 ; 3.103,10.822 3.175,10.75 ; 3.11,10.116 3.182,10.044 ; 3.117,9.41 3.189,9.338 ; 3.124,8.704 3.195,8.632 ; 3.175,10.692 3.175,10.75 ; 3.182,9.986 3.182,10.044 ; 3.189,9.28 3.189,9.338 ; 3.195,8.574 3.195,8.632 ; 3.954,0.041 ccw(c4.75,-0.3) 4.057,-0.819 ; 3.954,0.041 cw(c4.75,-0.3) 4.057,-0.819 ; 3.954,0.041 4.057,-0.819 ; 3.954,0.041 4.647,0.56 5.443,0.219 5.546,-0.641 4.853,-1.16 4.057,-0.819 ; -4.393,0.36 cw(c-4.75,-0.3) -4,-0.279 cw(c-4.75,-0.3) -4.393,0.36 ; 5.045,0.39 cw(c4.75,-0.3) 5.495,-0.211 cw(c4.75,-0.3) 5.045,0.39
  text ".Designator" at -6.763,3.821 h3
Bottom Assy (Mech14):
  drawing of 510 lines, arcs and shapes, not listed
3D body "32K243-40ML5_without_screw_thread.x_t": height 4.85, standoff -5.15, extent -7,-2.5 7,12

## 142-0761-881 [mm] "Right Angle Jack PCB SMA"
height 2.9
pads (3):
  oval 0.406x5.537 smd mask+0.05: 1(0,-2.77)
  rect 3.58x5.537 smd paste-3 mask+0.05: 2(-2.24,-2.77) 2(2.24,-2.77)
via -0.838,-0.648 diameter 0.7 hole 0.4
via 0.838,-0.648 diameter 0.7 hole 0.4
via -0.838,-5.067 diameter 0.7 hole 0.4
via 0.838,-5.067 diameter 0.7 hole 0.4
via 0.838,-2.857 diameter 0.7 hole 0.4
via -0.838,-2.857 diameter 0.7 hole 0.4
via -1.219,-3.962 diameter 2 hole 1.15
via -1.219,-1.753 diameter 2 hole 1.15
via 1.219,-3.962 diameter 2 hole 1.15
via 1.219,-1.753 diameter 2 hole 1.15
Top Courtyard:
  lines w0.025: -4.5,-6 -4.5,0.1 4.5,0.1 4.5,-6 -4.5,-6
Top Assy (Mech13):
  lines w0.05: -2.809,-4.547 -2.809,0 2.809,0 2.809,-4.547 ; -2.692,8.834 -2.692,9.525 2.692,9.525 2.692,8.834 ; -2.54,4.318 -2.54,2.286 ; -2.064,-4.547 -2.064,0 ; -1.475,1.697 cw(c0,-0.858) 1.475,1.697 ; -1.475,0 -1.475,1.689 -3.137,1.689 ; -0.635,0 -0.635,-4.547 -3.137,-4.547 -3.137,1.689 ; -0.356,0 -0.356,-0.102 0.356,-0.102 0.356,0 ; -0.127,-0.102 -0.127,-0.635 ; 0.127,-0.102 0.127,-0.635 ; 0.635,0 0.635,-4.547 3.137,-4.547 3.137,1.689 ; 1.475,0 1.475,1.689 3.137,1.689 ; 2.064,-4.547 2.064,0 ; 2.54,4.318 2.54,2.286 ; 2.766,8.583 -2.817,8.408 ; 2.767,8.716 2.543,8.716 -3.011,8.522 ; 2.773,7.877 -2.811,7.702 ; 2.776,8.01 2.776,7.878 3.086,7.7 ; 2.78,7.171 -2.804,6.996 ; 2.782,7.304 2.782,7.172 3.093,6.994 ; 2.786,6.465 -2.797,6.29 ; 2.789,6.598 2.789,6.466 3.1,6.288 ; 2.793,5.759 -2.79,5.584 ; 2.796,5.892 2.796,5.76 3.106,5.582 ; 2.8,5.053 -2.783,4.878 ; 2.803,5.186 2.803,5.054 3.113,4.876 ; -3.199,7.923 -2.811,7.702 ; -3.199,7.923 3.151,8.276 ; -3.199,7.923 -3.199,8.011 ; -3.199,8.011 3.151,8.334 ; -3.199,8.011 -2.817,8.235 ; -3.192,7.217 -2.804,6.996 ; -3.192,7.217 3.158,7.57 ; -3.192,7.217 -3.192,7.305 ; -3.192,7.305 3.158,7.628 ; -3.192,7.305 -2.811,7.529 ; -3.186,6.511 -2.797,6.29 ; -3.186,6.511 3.164,6.864 ; -3.186,6.511 -3.186,6.599 ; -3.186,6.599 3.164,6.922 ; -3.186,6.599 -2.804,6.823 ; -3.179,5.805 -2.79,5.584 ; -3.179,5.805 3.171,6.158 ; -3.179,5.805 -3.179,5.893 ; -3.179,5.893 3.171,6.216 ; -3.179,5.893 -2.797,6.117 ; -3.172,5.099 -2.783,4.878 ; -3.172,5.099 3.178,5.452 ; -3.172,5.099 -3.172,5.187 ; -3.172,5.187 3.178,5.51 ; -3.172,5.187 -2.79,5.411 ; -3.137,1.689 -2.54,2.286 ; -3.011,8.522 -2.817,8.408 ; -3.011,8.522 -2.699,8.834 2.692,8.834 ; -2.817,8.235 3.079,8.405 ; -2.817,8.235 -2.817,8.408 ; -2.811,7.529 3.086,7.7 ; -2.811,7.529 -2.811,7.702 ; -2.811,7.702 2.769,8.039 3.151,8.276 ; -2.804,6.823 3.093,6.994 ; -2.804,6.823 -2.804,6.996 ; -2.804,6.996 2.776,7.333 3.158,7.57 ; -2.797,6.117 3.1,6.288 ; -2.797,6.117 -2.797,6.29 ; -2.797,6.29 2.782,6.627 3.164,6.864 ; -2.79,5.411 -2.79,5.584 ; -2.79,5.411 3.106,5.582 ; -2.79,5.584 2.789,5.921 3.171,6.158 ; -2.783,4.705 -2.979,4.604 -2.692,4.318 2.658,4.318 2.776,4.436 ; -2.783,4.705 3.113,4.876 ; -2.783,4.705 -2.783,4.878 ; -2.783,4.878 2.796,5.215 3.178,5.452 ; -2.54,2.286 2.54,2.286 ; -0.127,-0.635 ccw(c0,-0.635) 0.127,-0.635 ; -0.127,-0.635 0.127,-0.635 ; 2.54,2.286 3.137,1.689 ; 2.692,8.834 2.769,8.716 2.769,8.584 3.079,8.405 ; 2.776,4.436 2.994,4.627 ; 2.776,4.436 1.929,4.436 2.994,4.627 ; 2.994,4.627 3.185,4.746 3.185,4.804 3.113,4.876 ; 3.079,8.405 3.151,8.334 ; 3.086,7.7 3.158,7.628 ; 3.093,6.994 3.164,6.922 ; 3.1,6.288 3.171,6.216 ; 3.106,5.582 3.178,5.51 ; 3.151,8.276 3.151,8.334 ; 3.158,7.57 3.158,7.628 ; 3.164,6.864 3.164,6.922 ; 3.171,6.158 3.171,6.216 ; 3.178,5.452 3.178,5.51
  text ".Designator" at 5.679,-5.063 h3
3D body "142-0761-881.x_t": height 3.23, standoff -3.03, extent -3.134,-4.547 3.134,9.525

## 414963-1 [mm] "Right angle Jack PCB SMB"
height 11.5
pads (5):
  round 2.55 hole 1.25: 1(0,0)
  round 2.9 hole 1.75: 2(-2.54,-2.54) 2(-2.54,2.54) 2(2.54,-2.54) 2(2.54,2.54)
Top Courtyard:
  lines w0.025: -4.5,-4.5 5.9,-4.5 5.9,-3.7 17.1,-3.7 17.1,3.7 5.9,3.7 5.9,4.5 -4.5,4.5 -4.5,-4.5
Top Assy (Mech13):
  lines w0.05: 5.512,-2.402 6.38,-2.402 ; 5.512,2.402 6.777,2.402 ; 7.223,1.973 7.031,1.973 ; 7.606,-1.963 7.861,-2.399 ; 8.017,1.972 7.825,1.972 ; 8.4,-1.964 8.654,-2.399 ; 8.811,1.972 8.619,1.972 ; 9.007,-1.972 8.761,-2.402 ; 9.194,-1.964 9.448,-2.4 ; 9.605,1.972 9.412,1.972 ; 9.801,-1.973 9.555,-2.402 ; 9.988,-1.964 10.242,-2.4 ; 10.399,1.971 10.206,1.971 ; 10.595,-1.972 10.787,-1.972 ; 10.645,2.4 10.401,1.968 10.79,-0.53 ; 10.791,0.963 10.645,2.402 10.745,2.402 11,1.972 ; 10.794,2.32 10.794,0.913 10.787,-1.972 ; 10.796,2.107 11.222,-0.48 ; 11.354,1.841 12.827,1.841 ; -3.175,-2.921 ccw(c-2.921,-2.921) -2.921,-3.175 ; -3.175,-2.921 5.512,-2.921 ; -3.175,-2.921 -3.175,2.921 ; -3.175,2.921 cw(c-2.921,2.921) -2.921,3.175 ; -3.175,2.921 5.512,2.921 ; -2.921,-3.175 -2.921,3.175 ; -2.921,-3.175 5.258,-3.175 ; -2.921,3.175 5.258,3.175 ; 5.258,-3.175 ccw(c5.258,-2.921) 5.512,-2.921 ; 5.258,-3.175 5.258,3.175 ; 5.258,3.175 cw(c5.258,2.921) 5.512,2.921 ; 5.512,-2.921 5.512,2.921 ; 6.38,-2.402 6.626,-1.973 ; 6.38,-2.402 6.185,0.148 6.429,1.369 ; 6.429,1.369 6.627,1.369 ; 6.429,1.369 6.429,0 6.626,-1.973 ; 6.626,-1.973 6.818,-1.973 ; 6.627,1.369 6.627,0 6.818,-1.973 ; 6.627,1.369 6.862,0.315 7.073,-2.402 ; 6.777,2.402 7.031,1.973 ; 6.777,2.402 7.174,-2.402 ; 6.818,-1.973 7.073,-2.402 ; 7.031,1.973 7.42,-1.972 ; 7.073,-2.402 7.174,-2.402 ; 7.174,-2.402 7.42,-1.972 ; 7.42,-1.972 7.612,-1.972 7.226,1.969 7.47,2.402 ; 7.47,2.402 7.57,2.402 ; 7.47,2.402 7.866,-2.402 7.967,-2.402 ; 7.57,2.402 7.967,-2.402 ; 7.57,2.402 7.825,1.972 ; 7.825,1.972 8.214,-1.973 ; 7.967,-2.402 8.213,-1.972 ; 8.214,-1.973 8.406,-1.973 8.02,1.969 8.263,2.401 ; 8.263,2.401 8.364,2.401 ; 8.263,2.401 8.66,-2.402 8.761,-2.402 ; 8.364,2.401 8.761,-2.402 ; 8.364,2.401 8.619,1.972 ; 8.619,1.972 9.007,-1.973 9.199,-1.973 8.814,1.969 9.057,2.401 ; 9.057,2.401 9.158,2.401 ; 9.057,2.401 9.454,-2.402 9.555,-2.402 ; 9.158,2.401 9.555,-2.402 ; 9.158,2.401 9.412,1.972 ; 9.412,1.972 9.801,-1.973 9.993,-1.973 9.608,1.968 9.851,2.401 ; 9.851,2.401 9.952,2.401 ; 9.851,2.401 10.248,-2.402 10.349,-2.402 ; 9.952,2.401 10.349,-2.402 ; 9.952,2.401 10.206,1.971 ; 10.206,1.971 10.595,-1.973 10.349,-2.402 ; 10.787,-1.972 10.952,-2.243 11.354,-1.841 ; 11,1.972 11.222,-0.48 ; 11,1.972 11.219,1.972 ; 11.219,1.972 11.222,-0.48 ; 11.219,1.972 11.354,1.838 11.354,-1.841 ; 11.354,-1.841 12.827,-1.841 ; 12.827,-1.841 13.068,-1.638 ; 12.827,-1.841 12.827,1.841 ; 12.827,1.841 13.068,1.638 ; 13.068,-1.638 13.399,-1.638 ; 13.068,-1.638 13.068,1.638 ; 13.068,1.638 13.399,1.638 ; 13.399,-1.638 13.64,-1.841 ; 13.399,-1.638 13.399,1.638 ; 13.399,1.638 13.64,1.841 ; 13.64,-1.841 16.434,-1.841 ; 13.64,-1.841 13.64,1.841 ; 13.64,1.841 16.434,1.841 ; 16.434,-1.841 ccw(c16.434,-1.587) 16.688,-1.587 16.688,1.587 ccw(c16.434,1.587) 16.434,1.841 ; 16.434,-1.841 16.434,1.841
  text ".Designator" at -6.763,4.321 h3
3D body "SMB_414963-1.x_t": height 7.68, standoff -2.79, extent -3.175,-3.175 16.688,3.175

## KLS1-SMA001 [mm] "Vertical Jack PCB SMA"
height 11.5
pads (5):
  round 2.55 hole 1.5: 1(0,0)
  round 2.9 hole 1.7: 2(-2.54,-2.54) 2(-2.54,2.54) 2(2.54,-2.54) 2(2.54,2.54)
Top Courtyard:
  lines w0.025: -4.5,-4.5 -4.5,4.5 4.5,4.5 4.5,-4.5 -4.5,-4.5
Top Assy (Mech13):
  drawing of 181 lines, arcs and shapes, not listed
  text ".Designator" at -6.763,4.321 h3
3D body "KLS1-SMA001.x_t": height 11.5, standoff -2, extent -3.5,-3.5 3.5,3.5

## KLS1-SMA001_WITHOUT_SCREW [mm] "Vertical Jack PCB SMA, 3D model without screw thread"
height 11.5
pads (5):
  round 2.55 hole 1.5: 1(0,0)
  round 2.9 hole 1.7: 2(-2.54,-2.54) 2(-2.54,2.54) 2(2.54,-2.54) 2(2.54,2.54)
Top Courtyard:
  lines w0.025: -4.5,-4.5 -4.5,4.5 4.5,4.5 4.5,-4.5 -4.5,-4.5
Top Assy (Mech13):
  drawing of 181 lines, arcs and shapes, not listed
  text ".Designator" at -6.763,4.321 h3
3D body "KLS1-SMA001_without_screw_thread.x_t": height 11.5, standoff -2, extent -3.5,-3.5 3.5,3.5

## KLS1-SMA002-B [mm] "Right angle Jack PCB SMA"
height 11.5
pads (5):
  round 2.55 hole 1.5: 1(0,0)
  round 2.9 hole 1.7: 2(-2.54,-2.54) 2(-2.54,2.54) 2(2.54,-2.54) 2(2.54,2.54)
Top Courtyard:
  lines w0.025: -4.5,-4.5 -4.5,4.5 4.5,4.5 4.5,3.7 12,3.7 12,-3.7 4.5,-3.7 4.5,-4.5 -4.5,-4.5
Top Assy (Mech13):
  drawing of 660 lines, arcs and shapes, not listed
  text ".Designator" at -6.763,4.321 h3
3D body "KLS1-SMA002-B.x_t": height 11.67, standoff -2, extent -3,-3.175 11.5,3.175

## KLS1-SMA002-B_WITHOUT_SCREW [mm] "Right angle Jack PCB SMA, 3D model without screw thread"
height 11.5
pads (5):
  round 2.55 hole 1.5: 1(0,0)
  round 2.9 hole 1.7: 2(-2.54,-2.54) 2(-2.54,2.54) 2(2.54,-2.54) 2(2.54,2.54)
Top Courtyard:
  lines w0.025: -4.5,-4.5 -4.5,4.5 4.5,4.5 4.5,3.7 12,3.7 12,-3.7 4.5,-3.7 4.5,-4.5 -4.5,-4.5
Top Assy (Mech13):
  drawing of 660 lines, arcs and shapes, not listed
  text ".Designator" at -6.763,4.321 h3
3D body "KLS1-SMA002-B_WITHOUT_SCREW.x_t": height 11.66, standoff -2, extent -3,-3.175 11.5,3.175

## RF2-143-T-17-50-G [mm] "SMA Connector"
height 3.375
pads (5):
  oval 3.5x1.2 smd: 1(-2.3,0)
  rect 4x1.8 smd paste-3: 2(-2.2,-2.775) 2(-2.2,2.775)
  rect 4x1.8 smd far side paste-3: 2(-2.2,-2.775) 2(-2.2,2.775)
Top Overlay:
  lines w0.2: -4.5,-1.9 -4.5,-4 -0.2,-4 ; -4.5,1.9 -4.5,4 -0.2,4
Top Paste:
  rectangle: -3.9,2 -3.2,2.7
  rectangle: -3.9,2.9 -3.2,3.6
  region: -3,3.6 -3,2.9 -2.3,2.9 -2.3,3.6
  region: -2.1,3.6 -2.1,2.9 -1.4,2.9 -1.4,3.6
  region: -1.2,3.6 -1.2,2.9 -0.5,2.9 -0.5,3.6
  region: -3,2.7 -3,2 -2.3,2 -2.3,2.7
  region: -2.1,2.7 -2.1,2 -1.4,2 -1.4,2.7
  region: -1.2,2.7 -1.2,2 -0.5,2 -0.5,2.7
  rectangle: -3.9,-2.7 -3.2,-2
  rectangle: -3.9,-3.6 -3.2,-2.9
  region: -2.3,-3.6 -2.3,-2.9 -3,-2.9 -3,-3.6
  region: -1.4,-3.6 -1.4,-2.9 -2.1,-2.9 -2.1,-3.6
  region: -0.5,-3.6 -0.5,-2.9 -1.2,-2.9 -1.2,-3.6
  region: -2.3,-2.7 -2.3,-2 -3,-2 -3,-2.7
  region: -1.4,-2.7 -1.4,-2 -2.1,-2 -2.1,-2.7
  region: -0.5,-2.7 -0.5,-2 -1.2,-2 -1.2,-2.7
Bottom Paste:
  rectangle: -3.9,-2.7 -3.2,-2
  rectangle: -3.9,-3.6 -3.2,-2.9
  region: -2.3,-3.6 -2.3,-2.9 -3,-2.9 -3,-3.6
  region: -1.4,-3.6 -1.4,-2.9 -2.1,-2.9 -2.1,-3.6
  region: -0.5,-3.6 -0.5,-2.9 -1.2,-2.9 -1.2,-3.6
  region: -2.3,-2.7 -2.3,-2 -3,-2 -3,-2.7
  region: -1.4,-2.7 -1.4,-2 -2.1,-2 -2.1,-2.7
  region: -0.5,-2.7 -0.5,-2 -1.2,-2 -1.2,-2.7
  rectangle: -3.9,2 -3.2,2.7
  rectangle: -3.9,2.9 -3.2,3.6
  region: -3,3.6 -3,2.9 -2.3,2.9 -2.3,3.6
  region: -2.1,3.6 -2.1,2.9 -1.4,2.9 -1.4,3.6
  region: -1.2,3.6 -1.2,2.9 -0.5,2.9 -0.5,3.6
  region: -3,2.7 -3,2 -2.3,2 -2.3,2.7
  region: -2.1,2.7 -2.1,2 -1.4,2 -1.4,2.7
  region: -1.2,2.7 -1.2,2 -0.5,2 -0.5,2.7
Top Courtyard:
  lines w0.025: -4.7,-4.2 -4.7,4.2 0,4.2 0,-4.2 -4.7,-4.2
Top Assy (Mech13):
  drawing of 574 lines, arcs and shapes, not listed
  text ".Designator" at -1.761,-0.453 h2
Bottom Assy (Mech14):
  drawing of 638 lines, arcs and shapes, not listed
3D body "RF2-143-T-17-50-G.x_t": height 3.57, standoff -2.78, extent -3.8,-3.175 9.5,3.175

## RF2-143-T-17-50-G_WITHOUT_SCREW [mm] "SMA Connector, 3D model without screw thread"
height 3.375
pads (5):
  oval 3.5x1.2 smd: 1(-2.3,0)
  rect 4x1.8 smd paste-3: 2(-2.2,-2.775) 2(-2.2,2.775)
  rect 4x1.8 smd far side paste-3: 2(-2.2,-2.775) 2(-2.2,2.775)
Top Overlay:
  lines w0.2: -4.5,-1.9 -4.5,-4 -0.2,-4 ; -4.5,1.9 -4.5,4 -0.2,4
Top Paste:
  region: -0.5,-2.7 -0.5,-2 -1.2,-2 -1.2,-2.7
  region: -1.4,-2.7 -1.4,-2 -2.1,-2 -2.1,-2.7
  region: -2.3,-2.7 -2.3,-2 -3,-2 -3,-2.7
  region: -0.5,-3.6 -0.5,-2.9 -1.2,-2.9 -1.2,-3.6
  region: -1.4,-3.6 -1.4,-2.9 -2.1,-2.9 -2.1,-3.6
  region: -2.3,-3.6 -2.3,-2.9 -3,-2.9 -3,-3.6
  rectangle: -3.9,-3.6 -3.2,-2.9
  rectangle: -3.9,-2.7 -3.2,-2
  region: -1.2,2.7 -1.2,2 -0.5,2 -0.5,2.7
  region: -2.1,2.7 -2.1,2 -1.4,2 -1.4,2.7
  region: -3,2.7 -3,2 -2.3,2 -2.3,2.7
  region: -1.2,3.6 -1.2,2.9 -0.5,2.9 -0.5,3.6
  region: -2.1,3.6 -2.1,2.9 -1.4,2.9 -1.4,3.6
  region: -3,3.6 -3,2.9 -2.3,2.9 -2.3,3.6
  rectangle: -3.9,2.9 -3.2,3.6
  rectangle: -3.9,2 -3.2,2.7
Bottom Paste:
  region: -1.2,2.7 -1.2,2 -0.5,2 -0.5,2.7
  region: -2.1,2.7 -2.1,2 -1.4,2 -1.4,2.7
  region: -3,2.7 -3,2 -2.3,2 -2.3,2.7
  region: -1.2,3.6 -1.2,2.9 -0.5,2.9 -0.5,3.6
  region: -2.1,3.6 -2.1,2.9 -1.4,2.9 -1.4,3.6
  region: -3,3.6 -3,2.9 -2.3,2.9 -2.3,3.6
  rectangle: -3.9,2.9 -3.2,3.6
  rectangle: -3.9,2 -3.2,2.7
  region: -0.5,-2.7 -0.5,-2 -1.2,-2 -1.2,-2.7
  region: -1.4,-2.7 -1.4,-2 -2.1,-2 -2.1,-2.7
  region: -2.3,-2.7 -2.3,-2 -3,-2 -3,-2.7
  region: -0.5,-3.6 -0.5,-2.9 -1.2,-2.9 -1.2,-3.6
  region: -1.4,-3.6 -1.4,-2.9 -2.1,-2.9 -2.1,-3.6
  region: -2.3,-3.6 -2.3,-2.9 -3,-2.9 -3,-3.6
  rectangle: -3.9,-3.6 -3.2,-2.9
  rectangle: -3.9,-2.7 -3.2,-2
Top Courtyard:
  lines w0.025: -4.7,-4.2 0,-4.2 0,4.2 -4.7,4.2 -4.7,-4.2
Top Assy (Mech13):
  drawing of 574 lines, arcs and shapes, not listed
  text ".Designator" at -1.761,-0.453 h2
Bottom Assy (Mech14):
  drawing of 638 lines, arcs and shapes, not listed
3D body "RF2-143-T-17-50-G_without_screw_thread.x_t": height 3.57, standoff -2.78, extent -3.8,-3.175 9.5,3.175